# EAGLE library part TSB12P (library mynixies)
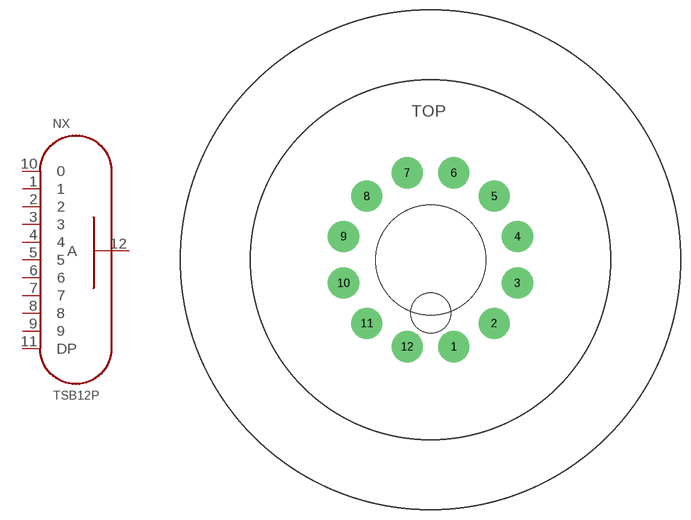
[diagram p23: symbol with the pads of TSB-12P-MILL-MAX; footprint TSB-12P-MILL-MAX]

Designator prefix NX

## TSB12P  [TSB-12P-MILL-MAX]
1  1  pas
2  2  pas
3  3  pas
4  4  pas
5  5  pas
6  6  pas
7  7  pas
8  8  pas
9  9  pas
10  0  pas
11  DP  pas
12  A  pas

## Footprint TSB-12P-MILL-MAX (pad centres in mm)
drill 3.66: 1 3.494,-13.04; 2 9.546,-9.546; 3 13.04,-3.494; 4 13.04,3.494; 5 9.546,9.546; 6 3.494,13.04; 7 -3.494,13.04; 8 -9.546,9.546; 9 -13.04,3.494; 10 -13.04,-3.494; 11 -9.546,-9.546; 12 -3.494,-13.04
hole 16.5 at 0,0
hole 6 at 0,-8